# Altium footprint library LED_edited.PcbLib: 4 footprints
Each footprint in its own frame and in the unit in brackets; x right, y up, seen from the top. Pads: shape width x height; smd on the part's side, far side on the other; paste and mask are expansions set on the pad; w line width, h text height; cw(c..) or ccw(c..) is an arc to the next point about the centre after c.
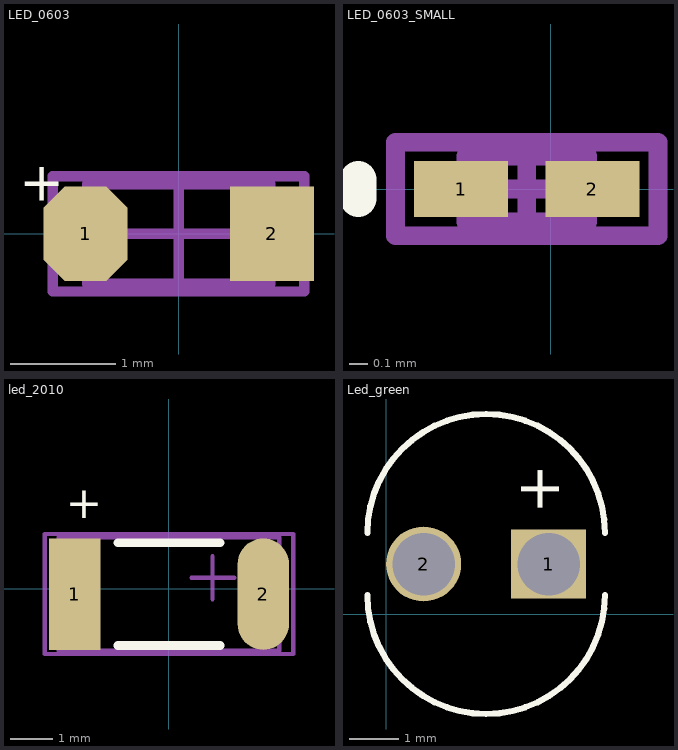
[diagram p0: the footprints below, top view; thin cyan lines are the x and y axes]

## LED_0603 [mm]
pads (2):
  oct 0.8x0.9 smd: 1(-0.889,0)
  rect 0.8x0.9 smd: 2(0.889,0)
Top Overlay:
  text "+" at -1.524,0.762 h0.64
Mechanical 13:
  lines w0.1: -0.875,-0.475 0.875,-0.475 0.875,0.475 -0.875,0.475 -0.875,-0.475
Mechanical 15:
  lines w0.1: -0.475,0 0.475,0 ; 0,-0.475 0,0.475 ; -1.2,-0.55 1.2,-0.55 1.2,0.55 -1.2,0.55 -1.2,-0.55
3D body "SML-LXLC1206.stp": height 1.11, standoff 0, extent -1.603,-0.8 1.603,0.8

## LED_0603_SMALL [mm]
pads (2):
  rect 0.5x0.3 smd: 1(-0.477,0) 2(0.223,0)
Top Overlay:
  lines w0.2: -1.027,-0.05 -1.027,0.05
Mechanical 13:
  lines w0.1: -0.452,-0.175 0.198,-0.175 0.198,0.175 -0.452,0.175 -0.452,-0.175
Mechanical 15:
  lines w0.1: -0.302,0 0.048,0 ; -0.127,-0.175 -0.127,0.175 ; -0.827,-0.25 0.573,-0.25 0.573,0.25 -0.827,0.25 -0.827,-0.25
3D body: height 0.55, standoff 0, extent -0.452,-0.175 0.198,0.175

## led_2010 [mm]
pads (2):
  rect 1.2x2.6 smd: 1(-2.2,-0.127)
  oval 1.2x2.6 smd: 2(2.2,-0.127)
Top Overlay:
  lines w0.2: -1.2,-1.327 1.2,-1.327 ; -1.2,1.073 1.2,1.073
  text "+" at -2.413,1.397 h1.28
Mechanical 13:
  lines w0.1: -2.575,-1.452 2.575,-1.452 2.575,1.198 -2.575,1.198 -2.575,-1.452
Mechanical 15:
  lines w0.1: 0.524,0.254 1.524,0.254 ; 1.016,-0.246 1.016,0.754 ; -2.9,-1.527 2.9,-1.527 2.9,1.273 -2.9,1.273 -2.9,-1.527
3D body "SML-LXLC1206.stp": height 1.11, standoff 0, extent -1.603,-0.8 1.603,0.8

## Led_green [mil]
pads (2):
  rect 60x55 hole 50: 1(130,40)
  round 60 hole 50: 2(30,40)
Top Overlay:
  lines w5: -15,15 ccw(c80,15) 175,15 ; -15,65 cw(c80,65) 175,65
  text "+" at 150,80 h60
3D body "LED_G_5mm_2pin.STEP": height 338.58, standoff -984.25, extent -31.13,-76.03 183.43,156.04